# Altium schematic symbol library SCH - POWER - LINEAR VREG - TI TL720M05-Q1KVU.SchLib: 1 symbol
Pins are listed as number, name and electrical type; pins without a type are passive.

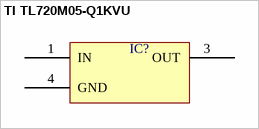
[diagram p0: symbol TI TL720M05-Q1KVU]

## TI TL720M05-Q1KVU
designator IC?  (value not drawn)
pins: 1 IN, 3 OUT, 4 GND